# Altium footprint library 058_pcb_2.PcbLib: 23 footprints (part 1 of 2)
Each footprint in its own frame and in the unit in brackets; x right, y up, seen from the top. Pads: shape width x height; smd on the part's side, far side on the other; paste and mask are expansions set on the pad; w line width, h text height; cw(c..) or ccw(c..) is an arc to the next point about the centre after c.
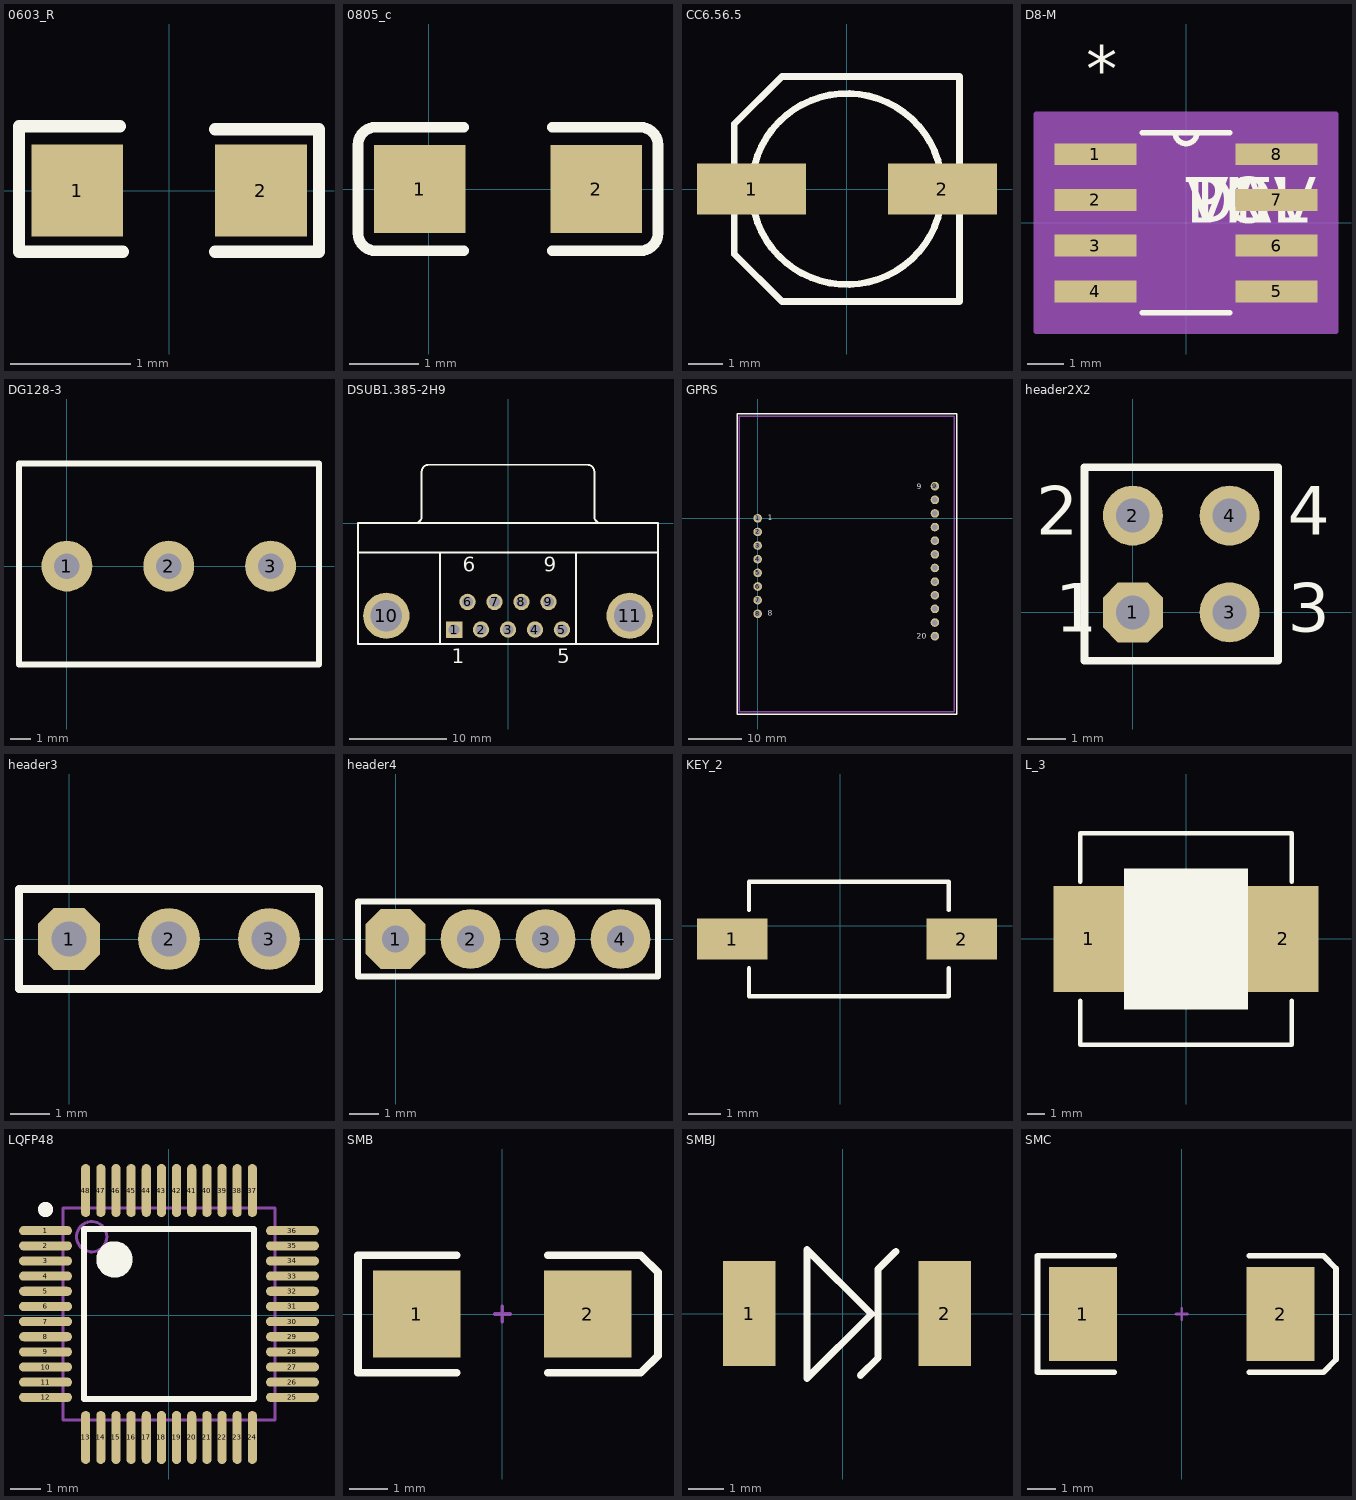
[diagram p0: the footprints below, top view; thin cyan lines are the x and y axes]

## 0603_R [mil]
height 23.62
pads (2):
  rect 30x30 smd: 1(-30,0) 2(30,0)
Top Overlay:
  lines w4: -16,21 -49,21 -49,-20 -15,-20 ; 15,-20 49,-20 49,20 15,20
3D body "R0603.STEP": height 17.72, standoff 0, extent -31.5,-15.75 31.49,15.75

## 0805_c [mil]
height 33.46
pads (2):
  rect 52x50 smd: 1(-5,0) 2(95,0)
Top Overlay:
  lines w6: 20,-35 -30,-35 cw(c-30,-25) -40,-25 -40,25 cw(c-30,25) -30,35 20,35 ; 70,-35 120,-35 ccw(c120,-25) 130,-25 130,25 ccw(c120,25) 120,35 70,35
3D body "Capacitor 0805 SMD.step": height 36.61, standoff -0.39, extent -13.11,-27.56 105,27.56

## CC6.56.5 [mm]
height 0.85
pads (2):
  rect 3.2x1.5 smd: 1(-2.794,0) 2(2.8,0)
Top Overlay:
  circle w0.2: c0,0 r2.8
  lines w0.2: -3.302,-1.905 -3.302,1.905 -1.905,3.302 3.302,3.302 3.302,-3.302 -1.905,-3.302 -3.302,-1.905

## D8-M [mil]
pads (8):
  rect 90x24 smd: 1(-99,75) 2(-99,25) 3(-99,-25) 4(-99,-75) 5(99,-75) 6(99,-25) 7(99,25) 8(99,75)
Top Overlay:
  lines w6: -47.73,-98.5 47.73,-98.5 ; -47.73,98.5 47.73,98.5 ; -12,98.5 ccw(c0,98.5) 12,98.5
  text "*" at -109,144 h50
  text "PN" at 0,0 h50
  text "DEV" at 0,0 h50
  text "VAL" at 0,0 h50
  text "TOL" at 0,0 h50
Mechanical 13:
  lines w0: -12,98.5 ccw(c0,98.5) 12,98.5
  text "*" at -109,144 h50
Mechanical 15:
  region: 164,-118.5 -164,-118.5 -164,118.5 164,118.5
  lines w6: -164,-118.5 -164,118.5 164,118.5 164,-118.5 -164,-118.5
3D body "D8-M.stp": height 69.1, standoff 0, extent -122,-98.5 122,98.5

## DG128-3 [mm]
height 0.85
pads (3):
  round 2.54 hole 1.27: 1(0,0) 2(5.08,0) 3(10.16,0)
Top Overlay:
  lines w0.305: -2.388,-4.902 -2.388,5.105 12.573,5.105 12.573,-4.902 -2.388,-4.902
3D body "DG128-5.0-3P.STEP": height 14, standoff -4.28, extent -2.54,-4.9 13.2,5.1

## DSUB1.385-2H9 [mm] "Connector; D Subminiature; 9 Position; Right Angle; Pitch 1.385 mm"
height 12.75
pads (11):
  rect 1.69x1.69 hole 1.09: 1(-5.54,-10.92)
  round 1.69 hole 1.09: 2(-2.77,-10.92) 3(0,-10.92) 4(2.77,-10.92) 5(5.54,-10.92) 6(-4.155,-8.08) 7(-1.385,-8.08) 8(1.385,-8.08) 9(4.155,-8.08)
  round 4.76 hole 3.26: 10(-12.495,-9.5) 11(12.495,-9.5)
Top Overlay:
  lines w0.2: -15.4,-3 15.4,-3 ; -9.56,0.005 ccw(c-9.56,0.7) -8.865,0.7 -8.865,5.3 ; -8.86,5.305 cw(c-8.165,5.305) -8.165,6 8.165,6 cw(c8.165,5.305) 8.86,5.305 ; -7,-12.4 -7,-3 ; 7,-12.4 7,-3 ; 8.865,5.3 8.865,0.7 ccw(c9.56,0.7) 9.56,0.005 ; -15.4,-12.4 15.4,-12.4 15.4,0 -15.4,0 -15.4,-12.4
  text "6" at -4.655,-4.975 h1.5
  text "9" at 3.655,-4.975 h1.5
  text "5" at 5.04,-14.375 h1.5
  text "1" at -5.79,-14.375 h1.5

## GPRS [mm]
pads (20):
  round 1.6 hole 1.02: 1(0,0) 2(0,-2.54) 3(0,-5.08) 4(0,-7.62) 5(0,-10.16) 6(0,-12.7) 7(0,-15.24) 8(0,-17.78) 9(33.02,5.99) 10(33.02,3.45) 11(33.02,0.91) 12(33.02,-1.63) 13(33.02,-4.17) 14(33.02,-6.71) 15(33.02,-9.25) 16(33.02,-11.79) 17(33.02,-14.33) 18(33.02,-16.87) 19(33.02,-19.41) 20(33.02,-21.95)
Top Overlay:
  lines w0.254: -3.811,19.431 37.084,19.431 37.085,-36.449 -3.81,-36.449 -3.811,19.431
  text "9" at 29.591,5.461 h1.02
  text "20" at 29.591,-22.479 h1.02
  text "8" at 1.905,-18.161 h1.02
  text "1" at 1.905,-0.381 h1.02
Mechanical 1:
  lines w0.254: -3.421,18.99 36.579,18.99 36.58,-36.01 -3.42,-36.01 -3.421,18.99
3D body: height 7, standoff 0, extent -3.421,-36.01 36.579,18.99

## header2X2 [mil]
height 33.46
pads (4):
  oct 62x62 hole 35: 1(0,0)
  round 62 hole 35: 2(0,100) 3(100,0) 4(100,100)
Top Overlay:
  lines w8: -50,-50 150,-50 150,150 -50,150 -50,-50
  text "3" at 160,-20 h50
  text "4" at 160,80 h50
  text "2" at -100,80 h50
  text "1" at -80,-20 h50
3D body "HEADER 2X2.STEP": height 397.64, standoff -59.06, extent -50,-50 150,150

## header3 [mil]
height 33.46
pads (3):
  oct 62x62 hole 35: 1(0,0)
  round 62 hole 35: 2(100,0) 3(200,0)
Top Overlay:
  lines w8: -50,-50 -50,50 250,50 250,-50 -50,-50
3D body "HEADER 3.STEP": height 397.64, standoff -59.06, extent -50,-50 250,50

## header4 [mil]
height 33.46
pads (4):
  oct 80x80 hole 36: 1(0,0)
  round 80 hole 36: 2(100,0) 3(200,0) 4(300,0)
Top Overlay:
  lines w8: -50,-50 -50,50 350,50 350,-50 -50,-50
3D body "HEADER 4.STEP": height 397.64, standoff -59.06, extent -50,-50 350,50

## KEY_2 [mm] "贴片"
height 0.85
pads (2):
  rect 2.159x1.254 smd: 1(-3.291,-0.41) 2(3.709,-0.41)
Top Overlay:
  lines w0.127: -2.783,-1.301 -2.783,-2.16 3.313,-2.16 3.313,-1.301 ; -2.783,0.477 -2.783,1.34 3.313,1.34 3.313,0.477
3D body "SW3dPS-TVBU19.STEP": height -0.51, standoff -3.01, extent -2.796,-2.231 3.304,1.469

## L_3 [mm] "12*12"
height 7
pads (2):
  rect 4x6 smd: 1(-5.5,0) 2(5.5,0)
Top Overlay:
  rectangle: -3.5,-4 3.5,4
  lines w0.254: -6,-3.5 -6,-6 6,-6 6,-3.5 ; -6,3.25 -6,6 6,6 6,3.25
3D body "User Library-MSS1260.STEP": height 6.1, standoff -0.05, extent -6.15,-6.15 6.15,6.15

## LQFP48 [mm]
height 0.85
pads (48):
  oval 1.75x0.3 smd: 1(-4.064,2.794) 2(-4.064,2.294) 3(-4.064,1.794) 4(-4.064,1.294) 5(-4.064,0.794) 6(-4.064,0.294) 7(-4.064,-0.206) 8(-4.064,-0.706) 9(-4.064,-1.206) 10(-4.064,-1.706) 11(-4.064,-2.206) 12(-4.064,-2.706) 25(4.086,-2.706) 26(4.086,-2.206) 27(4.086,-1.706) 28(4.086,-1.206) 29(4.086,-0.706) 30(4.086,-0.206) 31(4.086,0.294) 32(4.086,0.794) 33(4.086,1.294) 34(4.086,1.794) 35(4.086,2.294) 36(4.086,2.794)
  oval 0.3x1.75 smd: 13(-2.739,-4.031) 14(-2.239,-4.031) 15(-1.739,-4.031) 16(-1.239,-4.031) 17(-0.739,-4.031) 18(-0.239,-4.031) 19(0.261,-4.031) 20(0.761,-4.031) 21(1.261,-4.031) 22(1.761,-4.031) 23(2.261,-4.031) 24(2.761,-4.031) 37(2.761,4.119) 38(2.261,4.119) 39(1.761,4.119) 40(1.261,4.119) 41(0.761,4.119) 42(0.261,4.119) 43(-0.239,4.119) 44(-0.739,4.119) 45(-1.239,4.119) 46(-1.739,4.119) 47(-2.239,4.119) 48(-2.739,4.119)
Top Overlay:
  circle w0.25: c-4.064,3.494 r0.125
  circle w0.6: c-1.789,1.844 r0.3
  lines w0.2: -2.789,-2.756 -2.789,2.844 2.811,2.844 2.811,-2.756 -2.789,-2.756
Mechanical 13:
  circle w0.1: c-2.539,2.594 r0.5
  lines w0.1: -3.489,-3.456 -3.489,3.544 3.511,3.544 3.511,-3.456 -3.489,-3.456
3D body "LQFP7X7-48.STEP": height 1.56, standoff 0, extent -4.5,-4.436 4.5,4.564

## SMB [mm] "DO-214-AA/SMB; 2 C-Bend Leads; Body 5.3 x 3.6 mm, inc. leads (LxW)"
height 2.54
pads (2):
  rect 2.3x2.3 smd: 1(-2.25,0) 2(2.25,0)
Top Overlay:
  lines w0.2: -1.2,-1.55 -3.8,-1.55 -3.8,1.55 -1.2,1.55 ; 1.2,-1.55 3.65,-1.55 4.1,-1.1 4.1,1.1 3.65,1.55 1.2,1.55
Mechanical 1:
  lines w0.1: -0.2,0 0.2,0 ; 0,-0.2 0,0.2

## SMBJ [mm]
height 0.85
pads (2):
  rect 1.5x3 smd: 1(-2.667,0) 2(2.921,0)
Top Overlay:
  lines w0.203: 0.508,-1.778 1.016,-1.27 1.016,1.27 1.524,1.778 ; -1.016,-1.854 -1.016,1.829 0.826,-0.013 -1.016,-1.854

## SMC [mm] "DO-214-AB/SMC; 2 C-Bend Leads; Body 7.9 x 5.9 mm, inc. leads (LxW)"
height 2.65
pads (2):
  rect 2.4x3.3 smd: 1(-3.475,0) 2(3.475,0)
Top Overlay:
  lines w0.2: -2.375,-2.05 -5.075,-2.05 -5.075,2.05 -2.375,2.05 ; 2.375,-2.05 4.975,-2.05 5.425,-1.6 5.425,1.6 4.975,2.055 ; 2.375,2.05 4.975,2.05
Mechanical 1:
  lines w0.1: -0.2,0 0.2,0 ; 0,-0.2 0,0.2